# EAGLE library part TDA1517ATW (library Audio-Power-amlifier V.2.0)
8 W BTL or 2 ´ 4 W SE power amplifier
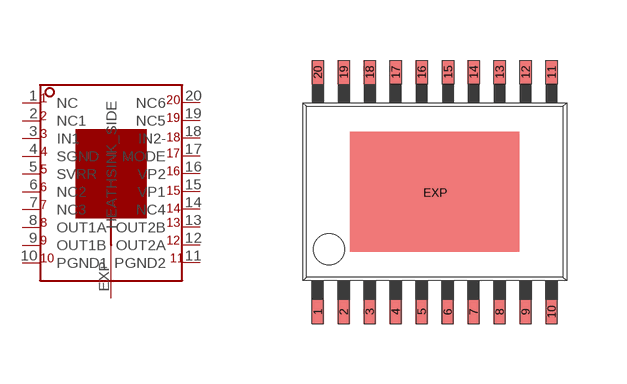
[diagram p32: symbol with the pads of SOT527-1; footprint SOT527-1]

Designator prefix IC

## TDA1517ATW  [SOT527-1]
1  NC  nc
2  NC1  nc
3  IN1  in
4  SGND  pwr
5  SVRR
6  NC2  nc
7  NC3  nc
8  OUT1A  out
9  OUT1B  out
10  PGND1  pwr
11  PGND2  pwr
12  OUT2A  out
13  OUT2B  out
14  NC4  nc
15  VP1  pwr
16  VP2  pwr
17  MODE
18  IN2-  in
19  NC5  nc
20  NC6  nc
EXP  HEATHSINK_SIDE  pwr

## Footprint SOT527-1 (pad centres in mm)
smd 0.305 x 0.61: 1 -2.925,-2.995; 2 -2.275,-2.995; 3 -1.625,-2.995; 4 -0.975,-2.995; 5 -0.325,-2.995; 6 0.325,-2.995; 7 0.975,-2.995; 8 1.625,-2.995; 9 2.275,-2.995; 10 2.925,-2.995; 11 2.925,2.995; 12 2.275,2.995; 13 1.625,2.995; 14 0.975,2.995; 15 0.335,2.995; 16 -0.325,2.995; 17 -0.975,2.995; 18 -1.625,2.995; 19 -2.275,2.995; 20 -2.925,2.995
smd 0.61 x 0.305: EXP 0.015,-0.015